# EAGLE library part JTAG_ARM_10PIN (library blinkinlabs)
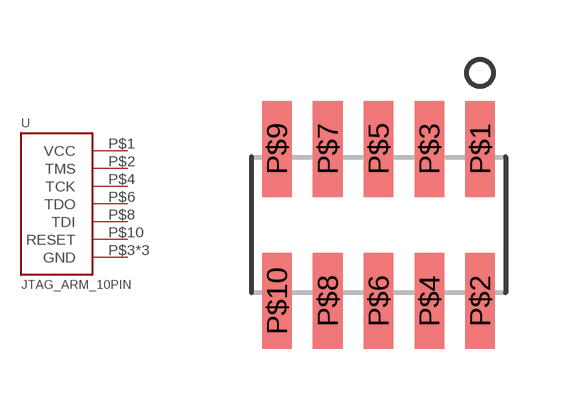
[diagram p19: symbol with the pads of 2X05-1.27MM-SMD; footprint 2X05-1.27MM-SMD]

Designator prefix -

## JTAG_ARM_10PIN  [2X05-1.27MM-SMD]
P$1  VCC  pwr
P$2  TMS
P$3  GND  pwr
P$4  TCK
P$5  GND  pwr
P$6  TDO
P$8  TDI
P$9  GND  pwr
P$10  RESET

## Footprint 2X05-1.27MM-SMD (pad centres in mm)
smd 0.74 x 2.4: P$1 2.54,1.905; P$2 2.54,-1.905; P$3 1.27,1.905; P$4 1.27,-1.905; P$5 0,1.905; P$6 0,-1.905; P$7 -1.27,1.905; P$8 -1.27,-1.905; P$9 -2.54,1.905; P$10 -2.54,-1.905